# EAGLE library part SI5504DC (library Railstars)
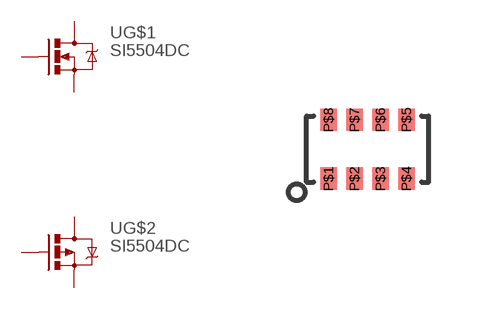
[diagram p45: symbol with the pads of 1206-8; footprint 1206-8]

Designator prefix -; gates G$1=MOSFET-NCHANNEL G$2=MOSFET-PCHANNEL

## SI5504DC  [1206-8]
P$1  G$1:S  pas
P$2  G$1:G  pas
P$3  G$2:S  pas
P$4  G$2:G  pas
P$5  G$2:D  pas
P$6  G$2:D  pas
P$7  G$1:D  pas
P$8  G$1:D  pas

## Footprint 1206-8 (pad centres in mm)
smd 0.406 x 0.559: P$1 -0.975,-0.737; P$2 -0.325,-0.737; P$3 0.325,-0.737; P$4 0.975,-0.737; P$5 0.975,0.737; P$6 0.325,0.737; P$7 -0.325,0.737; P$8 -0.975,0.737